# Altium schematic symbol library Schlib1.SchLib: 1 symbol
Pins are listed as number, name and electrical type; pins without a type are passive.

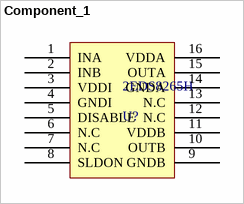
[diagram p0: symbol Component_1]

## Component_1
designator 2EDS8265H, comment U?
DSO-16 socket surface mount
footprint 2eds8265h_pcb
pins: 1 INA, 2 INB, 3 VDDI, 4 GNDI, 5 DISABLE, 6 N.C, 7 N.C, 8 SLDON, 9 GNDB, 10 OUTB, 11 VDDB, 12 N.C, 13 N.C, 14 GNDA, 15 OUTA, 16 VDDA